# Altium schematic symbol library BQ20Z70PW-V160.SchLib: 1 symbol
Pins are listed as number, name and electrical type; pins without a type are passive.

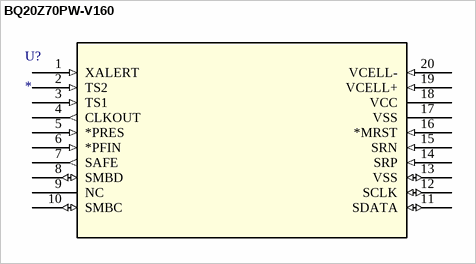
[diagram p0: symbol BQ20Z70PW-V160]

## BQ20Z70PW-V160
designator U?
No Description Available; Mfr_Name: Texas Instruments; RefDes: RefDes; Type: Type
footprint PW20
footprint PW20
pins: 1 XALERT (in), 2 TS2 (in), 3 TS1 (in), 4 CLKOUT (out), 5 *PRES (in), 6 *PFIN (in), 7 SAFE (out), 8 SMBD (io), 9 NC, 10 SMBC (io), 11 SDATA (io), 12 SCLK (io), 13 VSS (io), 14 SRP (in), 15 SRN (in), 16 *MRST (in), 17 VSS (power), 18 VCC (power), 19 VCELL+ (in), 20 VCELL- (in)